# Altium integrated library Silicon Labs Clocks and Oscillators.IntLib: 678 symbols (part 35 of 45)
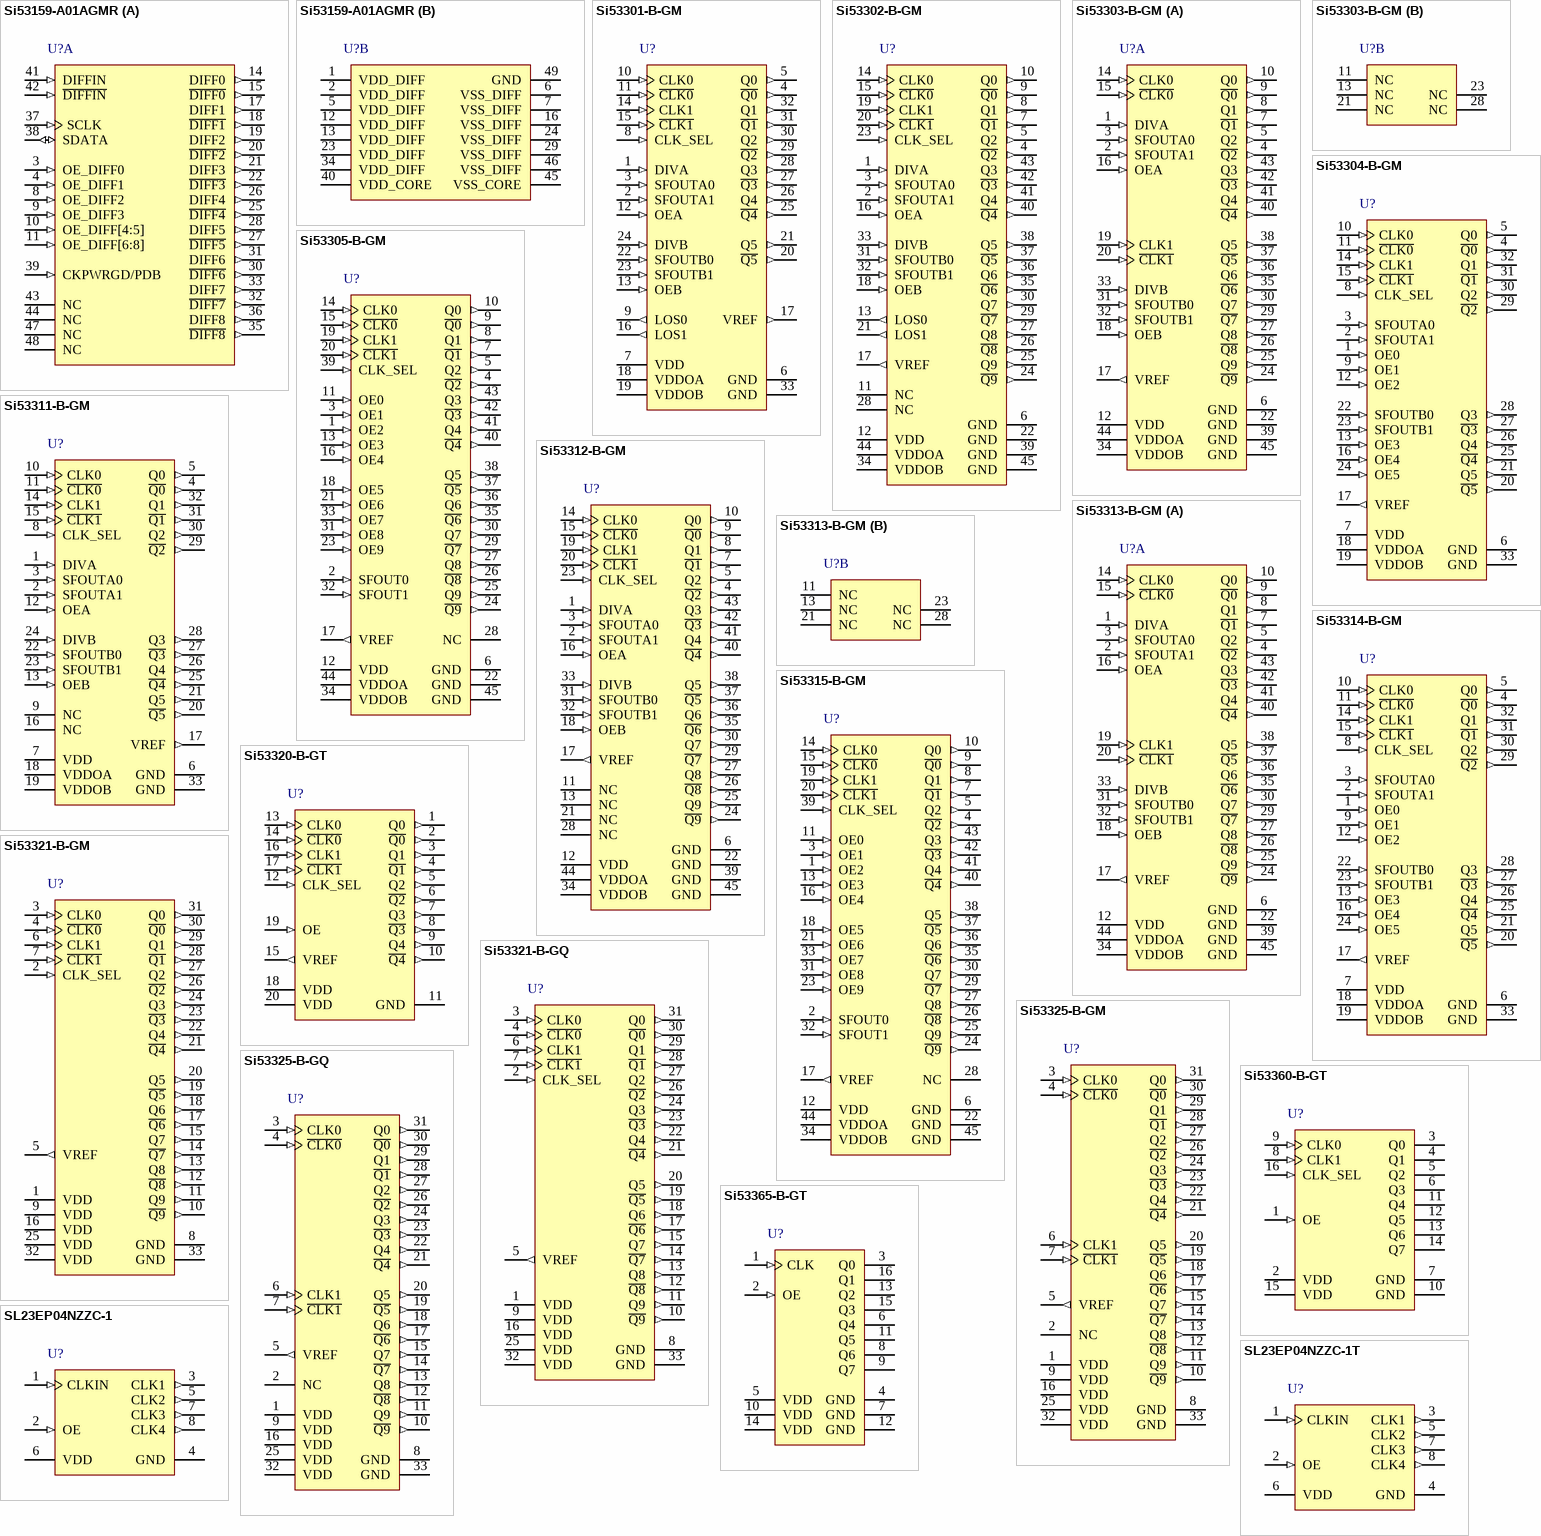
[diagram p78: symbols Si53159-A01AGMR to SL23EP04NZZC-1T]

## Si53321-B-GQ
designator U?
1:10 Low Jitter LVPECL Clock Buffer with 2:1 Input Mux, 1 to 1250 MHz, -40 to 85 degC, 32-pin QFP; Manufacturer: Silicon Labs; PartNumber: Si53321-B-GQ; Sub-Family: Clock Buffers; DatasheetVersion: Rev. 0.4; PackageReference: eLQFP-32; PackageDescription: 32-Pin eLQFP Package, Body 7 x 7 mm, Pitch 0.8 mm; Supplier 1: Digi-Key; Supplier Part Number 1: SI53321-B-GQ-ND; Supplier 2: Mouser; Supplier Part Number 2: 634-SI53321-B-GQ; Frequency (MHz): 1 to 1250; Output Format: LVPECL; Mounting Technology: Surface Mount; Code_JEDEC: MS-026; Code_IPC: J-STD-020; ComponentLink1Description: Manufacturer URL; ComponentLink1URL: http://www.silabs.com/; ComponentLink2Description: Datasheet; ComponentLink2URL: http://www.silabs.com/Support%20Documents/TechnicalDocs/Si53321.pdf; ComponentLink3Description: Package Specification; ComponentLink3URL: http://www.silabs.com/Support%20Documents/TechnicalDocs/Si53321.pdf
footprint SLAB-eLQFP-32_N (QFP, 32-Leads, Body 7x7mm, Pitch 0.8mm, Thermal Pad 1.97x1.97mm, IPC Medium Density)
footprint SLAB-eLQFP-32_L (QFP, 32-Leads, Body 7x7mm, Pitch 0.8mm, Thermal Pad 1.97x1.97mm, IPC High Density)
footprint SLAB-eLQFP-32_M (QFP, 32-Leads, Body 7x7mm, Pitch 0.8mm, Thermal Pad 1.97x1.97mm, IPC Low Density)
pins: 1 VDD (power) "Core voltage supply.Bypass with 1.0 uF capacitor and place as close to the VDD pin as possible.", 2 CLK_SEL (in) "Mux input select pin (LVCMOS) Clock inputs are switched without the introduction of glitches. When CLK_SEL is high, CLK1 is selected. When CLK_SEL is low, CLK0 is selected. CLK_SEL contains an internal pull-down resistor.", 3 CLK0 (in) "Input clock 0", 4 ~{CLK0} (in) "Input clock 0 (complement)", 5 VREF (out) "Input reference voltage.When driven by a LVCMOS clock input, connect the unused clock input to VREF and a 0.1 uF cap to ground. When driven by a differential clock, do not connect the VREF pin", 6 CLK1 (in) "Input clock 1", 7 ~{CLK1} (in) "Input clock 1 (complement)", 8 GND (power) "Ground.", 9 VDD (power) "Core voltage supply.Bypass with 1.0 uF capacitor and place as close to the VDD pin as possible.", 10 ~{Q9} (out) "Output clock 9 (complement).", 11 Q9 (out) "Output clock 9.", 12 ~{Q8} (out) "Output clock 8 (complement).", 13 Q8 (out) "Output clock 8.", 14 ~{Q7} (out) "Output clock 7 (complement).", 15 Q7 (out) "Output clock 7.", 16 VDD (power) "Core voltage supply.Bypass with 1.0 uF capacitor and place as close to the VDD pin as possible.", 17 ~{Q6} (out) "Output clock 6 (complement).", 18 Q6 (out) "Output clock 6.", 19 ~{Q5} (out) "Output clock 5 (complement).", 20 Q5 (out) "Output clock 5.", 21 ~{Q4} (out) "Output clock 4 (complement).", 22 Q4 (out) "Output clock 4.", 23 ~{Q3} (out) "Output clock 3 (complement).", 24 Q3 (out) "Output clock 3.", 25 VDD (power) "Core voltage supply.Bypass with 1.0 uF capacitor and place as close to the VDD pin as possible.", 26 ~{Q2} (out) "Output clock 2 (complement).", 27 Q2 (out) "Output clock 2.", 28 ~{Q1} (out) "Output clock 1 (complement).", 29 Q1 (out) "Output clock 1.", 30 ~{Q0} (out) "Output clock 0 (complement).", 31 Q0 (out) "Output clock 0.", 32 VDD (power) "Core voltage supply.Bypass with 1.0 uF capacitor and place as close to the VDD pin as possible.", 33 GND (power) "Ground Pad.The exposed ground pad is thermally connected to the die to improve the heat transfer out of the package. The ground pad must be connected to GND to ensure device specifications are met."

## Si53325-B-GM
designator U?
Dual 1:5 Low Jitter LVPECL Clock Buffer, 1 to 1250 MHz, -40 to 85 degC, 32-pin QFN; Manufacturer: Silicon Labs; PartNumber: Si53325-B-GM; Sub-Family: Clock Buffers; DatasheetVersion: Rev. 0.4; PackageReference: QFN-32; PackageDescription: 32-Pin Quad-Flat No-Leads Package, Body 5 x 5 mm, Pitch 0.5 mm; Supplier 1: Digi-Key; Supplier Part Number 1: SI53325-B-GM-ND; Supplier 2: Mouser; Supplier Part Number 2: 634-SI53325-B-GM; Frequency (MHz): 1 to 1250; Output Format: LVPECL; Mounting Technology: Surface Mount; Code_JEDEC: MO-220; Code_IPC: J-STD-020; ComponentLink1Description: Manufacturer URL; ComponentLink1URL: http://www.silabs.com/; ComponentLink2Description: Datasheet; ComponentLink2URL: http://www.silabs.com/Support%20Documents/TechnicalDocs/Si53325.pdf; ComponentLink3Description: Package Specification; ComponentLink3URL: http://www.silabs.com/Support%20Documents/TechnicalDocs/Si53321.pdf
footprint SLAB-QFN-32-2150x2150TP_A_N (QFN, 32-Leads, Body 5x5mm, Pitch 0.5mm, Thermal Pad 2.15x2.15mm, IPC Medium Density)
footprint SLAB-QFN-32-2150x2150TP_A_L (QFN, 32-Leads, Body 5x5mm, Pitch 0.5mm, Thermal Pad 2.15x2.15mm, IPC High Density)
footprint SLAB-QFN-32-2150x2150TP_A_M (QFN, 32-Leads, Body 5x5mm, Pitch 0.5mm, Thermal Pad 2.15x2.15mm, IPC Low Density)
pins: 1 VDD (power) "Core voltage supply. Bypass with 1.0 uF capacitor and place as close to the VDD pin as possible", 2 NC "No connect.", 3 CLK0 (in) "Input clock 0.", 4 ~{CLK0} (in) "Input clock 0 (complement).", 5 VREF (out) "Input reference voltage. When driven by a LVCMOS clock input, connect the unused clock input to VREF and a 0.1 uF cap to ground. When driven by a differential clock, do not connect the VREF pin.", 6 CLK1 (in) "Input clock 1.", 7 ~{CLK1} (in) "Input clock 1 (complement).", 8 GND (power) "Ground.", 9 VDD (power) "Core voltage supply. Bypass with 1.0 uF capacitor and place as close to the VDD pin as possible", 10 ~{Q9} (out) "Output clock 9 (complement).", 11 Q9 (out) "Output clock 9.", 12 ~{Q8} (out) "Output clock 8 (complement).", 13 Q8 (out) "Output clock 8.", 14 ~{Q7} (out) "Output clock 7 (complement).", 15 Q7 (out) "Output clock 7.", 16 VDD (power) "Core voltage supply. Bypass with 1.0 uF capacitor and place as close to the VDD pin as possible", 17 ~{Q6} (out) "Output clock 6 (complement).", 18 Q6 (out) "Output clock 6.", 19 ~{Q5} (out) "Output clock 5 (complement).", 20 Q5 (out) "Output clock 5.", 21 ~{Q4} (out) "Output clock 4 (complement).", 22 Q4 (out) "Output clock 4.", 23 ~{Q3} (out) "Output clock 3 (complement).", 24 Q3 (out) "Output clock 3.", 25 VDD (power) "Core voltage supply. Bypass with 1.0 uF capacitor and place as close to the VDD pin as possible", 26 ~{Q2} (out) "Output clock 2 (complement).", 27 Q2 (out) "Output clock 2.", 28 ~{Q1} (out) "Output clock 1 (complement).", 29 Q1 (out) "Output clock 1.", 30 ~{Q0} (out) "Output clock 0 (complement).", 31 Q0 (out) "Output clock 0.", 32 VDD (power) "Core voltage supply. Bypass with 1.0 uF capacitor and place as close to the VDD pin as possible", 33 GND (power) "Ground Pad. The exposed ground pad is thermally connected to the die to improve the heat transfer out of the package. The ground pad must be connected to GND to ensure device specifications are met."

## Si53325-B-GQ
designator U?
Dual 1:5 Low Jitter LVPECL Clock Buffer, 1 to 1250 MHz, -40 to 85 degC, 32-pin QFP; Manufacturer: Silicon Labs; PartNumber: Si53325-B-GQ; Sub-Family: Clock Buffers; DatasheetVersion: Rev. 0.4; PackageReference: eLQFP-32; PackageDescription: 32-Pin eLQFP Package, Body 7 x 7 mm, Pitch 0.8 mm; Supplier 1: Digi-Key; Supplier Part Number 1: SI53325-B-GQ-ND; Supplier 2: Mouser; Supplier Part Number 2: 634-SI53325-B-GQ; Frequency (MHz): 1 to 1250; Output Format: LVPECL; Mounting Technology: Surface Mount; Code_JEDEC: MS-026; Code_IPC: J-STD-020; ComponentLink1Description: Manufacturer URL; ComponentLink1URL: http://www.silabs.com/; ComponentLink2Description: Datasheet; ComponentLink2URL: http://www.silabs.com/Support%20Documents/TechnicalDocs/Si53325.pdf; ComponentLink3Description: Package Specification; ComponentLink3URL: http://www.silabs.com/Support%20Documents/TechnicalDocs/Si53321.pdf
footprint SLAB-eLQFP-32_N (QFP, 32-Leads, Body 7x7mm, Pitch 0.8mm, Thermal Pad 1.97x1.97mm, IPC Medium Density)
footprint SLAB-eLQFP-32_L (QFP, 32-Leads, Body 7x7mm, Pitch 0.8mm, Thermal Pad 1.97x1.97mm, IPC High Density)
footprint SLAB-eLQFP-32_M (QFP, 32-Leads, Body 7x7mm, Pitch 0.8mm, Thermal Pad 1.97x1.97mm, IPC Low Density)
pins: 1 VDD (power) "Core voltage supply. Bypass with 1.0 uF capacitor and place as close to the VDD pin as possible", 2 NC "No connect.", 3 CLK0 (in) "Input clock 0.", 4 ~{CLK0} (in) "Input clock 0 (complement).", 5 VREF (out) "Input reference voltage. When driven by a LVCMOS clock input, connect the unused clock input to VREF and a 0.1 uF cap to ground. When driven by a differential clock, do not connect the VREF pin.", 6 CLK1 (in) "Input clock 1.", 7 ~{CLK1} (in) "Input clock 1 (complement).", 8 GND (power) "Ground.", 9 VDD (power) "Core voltage supply. Bypass with 1.0 uF capacitor and place as close to the VDD pin as possible", 10 ~{Q9} (out) "Output clock 9 (complement).", 11 Q9 (out) "Output clock 9.", 12 ~{Q8} (out) "Output clock 8 (complement).", 13 Q8 (out) "Output clock 8.", 14 ~{Q7} (out) "Output clock 7 (complement).", 15 Q7 (out) "Output clock 7.", 16 VDD (power) "Core voltage supply. Bypass with 1.0 uF capacitor and place as close to the VDD pin as possible", 17 ~{Q6} (out) "Output clock 6 (complement).", 18 Q6 (out) "Output clock 6.", 19 ~{Q5} (out) "Output clock 5 (complement).", 20 Q5 (out) "Output clock 5.", 21 ~{Q4} (out) "Output clock 4 (complement).", 22 Q4 (out) "Output clock 4.", 23 ~{Q3} (out) "Output clock 3 (complement).", 24 Q3 (out) "Output clock 3.", 25 VDD (power) "Core voltage supply. Bypass with 1.0 uF capacitor and place as close to the VDD pin as possible", 26 ~{Q2} (out) "Output clock 2 (complement).", 27 Q2 (out) "Output clock 2.", 28 ~{Q1} (out) "Output clock 1 (complement).", 29 Q1 (out) "Output clock 1.", 30 ~{Q0} (out) "Output clock 0 (complement).", 31 Q0 (out) "Output clock 0.", 32 VDD (power) "Core voltage supply. Bypass with 1.0 uF capacitor and place as close to the VDD pin as possible", 33 GND (power) "Ground Pad. The exposed ground pad is thermally connected to the die to improve the heat transfer out of the package. The ground pad must be connected to GND to ensure device specifications are met."

## Si53360-B-GT
designator U?
1:8 Low Jitter CMOS Clock Buffer with 2:1 Input Mux, 1 to 200 MHz, -40 to 85 degC, 16-pin SOP; Manufacturer: Silicon Labs; PartNumber: Si53360-B-GT; Frequency (MHz): 1 to 200; Output Format: LVCMOS; Sub-Family: Clock Buffers; DatasheetVersion: Rev. 0.4; PackageReference: TSSOP-16; PackageDescription: 16-Pin Thin Shrink Small-Outline Package, Body 5 x 4.4 mm, Pitch 0.65 mm; Supplier 1: Digi-Key; Supplier Part Number 1: SI53360-B-GT-ND; Supplier 2: Mouser; Supplier Part Number 2: 634-SI53360-B-GT; Mounting Technology: Surface Mount; Code_JEDEC: MO-153; Code_IPC: J-STD-020C; ComponentLink1Description: Manufacturer URL; ComponentLink1URL: http://www.silabs.com/; ComponentLink2Description: Datasheet; ComponentLink2URL: http://www.silabs.com/Support%20Documents/TechnicalDocs/Si53360.pdf; ComponentLink3Description: Package Specification; ComponentLink3URL: http://www.silabs.com/Support%20Documents/TechnicalDocs/Si53360.pdf
footprint SLAB-TSSOP-16_N (SOP, 16-Leads, Body 5.1x4.5mm, Pitch 0.65mm, IPC Medium Density)
footprint SLAB-TSSOP-16_L (SOP, 16-Leads, Body 5.1x4.5mm, Pitch 0.65mm, IPC High Density)
footprint SLAB-TSSOP-16_M (SOP, 16-Leads, Body 5.1x4.5mm, Pitch 0.65mm, IPC Low Density)
pins: 1 OE (in) "Output enable.When OE=high, the clock outputs are enabled.When OE=low, the clock outputs are tri-stated.OE contains an internal pull-up resistor.", 2 VDD (power) "Core voltage supply.Bypass with 1.0 uF capacitor and place as close to the VDD pin as possible.", 3 Q0 (hiz) "Output clock 0.", 4 Q1 (hiz) "Output clock 1.", 5 Q2 (hiz) "Output clock 2.", 6 Q3 (hiz) "Output clock 3.", 7 GND (power) "Ground.", 8 CLK1 (in) "Input clock 1.", 9 CLK0 (in) "Input clock 0.", 10 GND (power) "Ground.", 11 Q4 (hiz) "Output clock 4.", 12 Q5 (hiz) "Output clock 5.", 13 Q6 (hiz) "Output clock 6.", 14 Q7 (hiz) "Output clock 7.", 15 VDD (power) "Core voltage supply.Bypass with 1.0 uF capacitor and place as close to the VDD pin as possible.", 16 CLK_SEL (in) "Mux input select pin (LVCMOS).When CLK_SEL is high, CLK1 is selected.When CLK_SEL is low, CLK0 is selected.CLK_SEL contains an internal pull-up resistor."

## Si53365-B-GT
designator U?
1:8 Low Jitter CMOS Clock Buffer, 1 to 200 MHz, -40 to 85 degC, 16-pin SOP; Manufacturer: Silicon Labs; PartNumber: Si53365-B-GT; Frequency (MHz): 1 to 200; Output Format: LVCMOS; Sub-Family: Clock Buffers; DatasheetVersion: Rev. 0.4; PackageReference: TSSOP-16; PackageDescription: 16-Pin Thin Shrink Small-Outline Package, Body 5 x 4.4 mm, Pitch 0.65 mm; Supplier 1: Digi-Key; Supplier Part Number 1: SI53365-B-GT-ND; Supplier 2: Mouser; Supplier Part Number 2: 634-SI53365-B-GT; Mounting Technology: Surface Mount; Code_JEDEC: MO-153; Code_IPC: J-STD-020C; ComponentLink1Description: Manufacturer URL; ComponentLink1URL: http://www.silabs.com/; ComponentLink2Description: Datasheet; ComponentLink2URL: http://www.silabs.com/Support%20Documents/TechnicalDocs/Si53365.pdf; ComponentLink3Description: Package Specification; ComponentLink3URL: http://www.silabs.com/Support%20Documents/TechnicalDocs/Si53360.pdf
footprint SLAB-TSSOP-16_N (SOP, 16-Leads, Body 5.1x4.5mm, Pitch 0.65mm, IPC Medium Density)
footprint SLAB-TSSOP-16_L (SOP, 16-Leads, Body 5.1x4.5mm, Pitch 0.65mm, IPC High Density)
footprint SLAB-TSSOP-16_M (SOP, 16-Leads, Body 5.1x4.5mm, Pitch 0.65mm, IPC Low Density)
pins: 1 CLK (in) "Input clock.", 2 OE (in) "Output enable.When OE=high, the clock outputs are enabled.When OE=low, the clock outputs are tri-stated.OE contains an internal pull-up resistor.", 3 Q0 (hiz) "Output clock 0.", 4 GND (power) "Ground.", 5 VDD (power) "Core voltage supply.Bypass with 1.0 uF capacitor and place as close to the VDD pin as possible.", 6 Q4 (hiz) "Output clock 4.", 7 GND (power) "Ground.", 8 Q6 (hiz) "Output clock 6.", 9 Q7 (hiz) "Output clock 7.", 10 VDD (power) "Core voltage supply.Bypass with 1.0 uF capacitor and place as close to the VDD pin as possible.", 11 Q5 (hiz) "Output clock 5.", 12 GND (power) "Ground.", 13 Q2 (hiz) "Output clock 2.", 14 VDD (power) "Core voltage supply.Bypass with 1.0 uF capacitor and place as close to the VDD pin as possible.", 15 Q3 (hiz) "Output clock 3.", 16 Q1 (hiz) "Output clock 1."

## SL23EP04NZZC-1
designator U?
Low Jitter and Skew Clock Buffer, DC to 220 MHz, 0 to 70 degC, 8-pin SOP, Tube; Manufacturer: Silicon Labs; PartNumber: SL23EP04NZZC-1; Output Format: LVCMOS; Sub-Family: Clock Buffers; DatasheetVersion: Rev. 2.1; PackageReference: TSSOP-8; PackageDescription: 8-Pin Thin Shrink Small-Outline Package, Body 4.4 x 3 mm, Pitch 0.65 mm; Supplier 1: Digi-Key; Supplier Part Number 1: SL23EP04NZZC-1-ND; Supplier 2: Mouser; Supplier Part Number 2: 634-SL23EP04NZZC-1; Frequency (MHz): DC to 220; Packing: Tube; Mounting Technology: Surface Mount; ComponentLink1Description: Manufacturer URL; ComponentLink1URL: http://www.silabs.com/; ComponentLink2Description: Datasheet; ComponentLink2URL: http://www.silabs.com/Support%20Documents/TechnicalDocs/SL23EP04NZ.pdf; ComponentLink3Description: Package Specification; ComponentLink3URL: http://www.silabs.com/Support%20Documents/TechnicalDocs/SL2304NZ.pdf
footprint SLAB-TSSOP-8_N (SOP, 8-Leads, Body 4.5x3.1mm, Pitch 0.65mm, IPC Medium Density)
footprint SLAB-TSSOP-8_L (SOP, 8-Leads, Body 4.5x3.1mm, Pitch 0.65mm, IPC High Density)
footprint SLAB-TSSOP-8_M (SOP, 8-Leads, Body 4.5x3.1mm, Pitch 0.65mm, IPC Low Density)
pins: 1 CLKIN (in) "Reference Clock Input", 2 OE (in) "Output Enable. Refer to the Table. 1 for Logic Table", 3 CLK1 (out) "Buffered Clock Output 1", 4 GND (power) "Power Ground.", 5 CLK2 (out) "Buffered Clock Output 2", 6 VDD (power), 7 CLK3 (out) "Buffered Clock Output 3", 8 CLK4 (out) "Buffered Clock Output 4"

## SL23EP04NZZC-1T
designator U?
Low Jitter and Skew Clock Buffer, DC to 220 MHz, 0 to 70 degC, 8-pin SOP, Tape and Reel; Manufacturer: Silicon Labs; PartNumber: SL23EP04NZZC-1T; Output Format: LVCMOS; Sub-Family: Clock Buffers; DatasheetVersion: Rev. 2.1; PackageReference: TSSOP-8; PackageDescription: 8-Pin Thin Shrink Small-Outline Package, Body 4.4 x 3 mm, Pitch 0.65 mm; Supplier 1: Digi-Key; Supplier Part Number 1: SL23EP04NZZC-1T-ND; Supplier 2: Mouser; Supplier Part Number 2: 634-SL23EP04NZZC-1T; Frequency (MHz): DC to 220; Packing: Tape and Reel; Mounting Technology: Surface Mount; ComponentLink1Description: Manufacturer URL; ComponentLink1URL: http://www.silabs.com/; ComponentLink2Description: Datasheet; ComponentLink2URL: http://www.silabs.com/Support%20Documents/TechnicalDocs/SL23EP04NZ.pdf; ComponentLink3Description: Package Specification; ComponentLink3URL: http://www.silabs.com/Support%20Documents/TechnicalDocs/SL2304NZ.pdf
footprint SLAB-TSSOP-8_N (SOP, 8-Leads, Body 4.5x3.1mm, Pitch 0.65mm, IPC Medium Density)
footprint SLAB-TSSOP-8_L (SOP, 8-Leads, Body 4.5x3.1mm, Pitch 0.65mm, IPC High Density)
footprint SLAB-TSSOP-8_M (SOP, 8-Leads, Body 4.5x3.1mm, Pitch 0.65mm, IPC Low Density)
pins: 1 CLKIN (in) "Reference Clock Input", 2 OE (in) "Output Enable. Refer to the Table. 1 for Logic Table", 3 CLK1 (out) "Buffered Clock Output 1", 4 GND (power) "Power Ground.", 5 CLK2 (out) "Buffered Clock Output 2", 6 VDD (power), 7 CLK3 (out) "Buffered Clock Output 3", 8 CLK4 (out) "Buffered Clock Output 4"

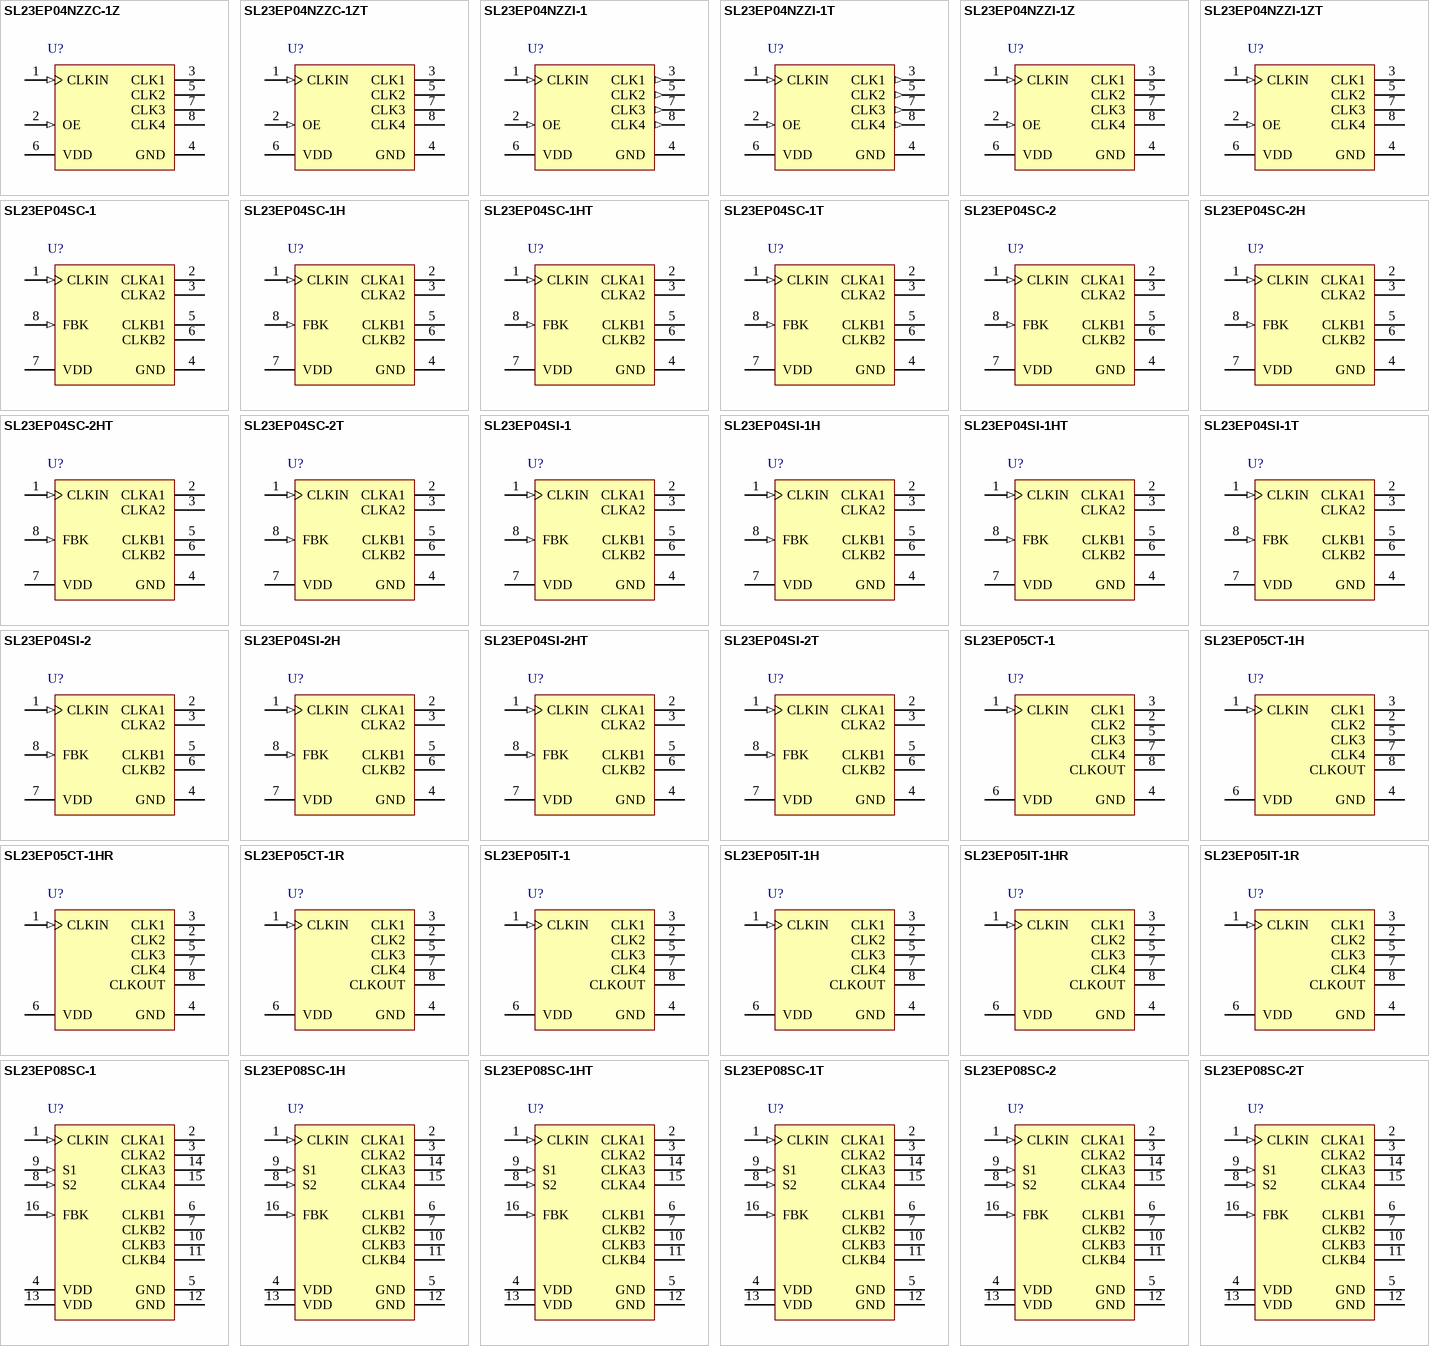
[diagram p34: symbols SL23EP04NZZC-1Z to SL23EP08SC-2T]

## SL23EP04NZZC-1Z
designator U?
Low Jitter and Skew Clock Buffer, DC to 220 MHz, 0 to 70 degC, 8-pin SOP, Tube; Manufacturer: Silicon Labs; PartNumber: SL23EP04NZZC-1Z; Output Format: LVCMOS; Sub-Family: Clock Buffers; DatasheetVersion: Rev. 2.1; PackageReference: TSSOP-8; PackageDescription: 8-Pin Thin Shrink Small-Outline Package, Body 4.4 x 3 mm, Pitch 0.65 mm; Frequency (MHz): DC to 220; Packing: Tube; Mounting Technology: Surface Mount; ComponentLink1Description: Manufacturer URL; ComponentLink1URL: http://www.silabs.com/; ComponentLink2Description: Datasheet; ComponentLink2URL: http://www.silabs.com/Support%20Documents/TechnicalDocs/SL23EP04NZ.pdf; ComponentLink3Description: Package Specification; ComponentLink3URL: http://www.silabs.com/Support%20Documents/TechnicalDocs/SL2304NZ.pdf
footprint SLAB-TSSOP-8_N (SOP, 8-Leads, Body 4.5x3.1mm, Pitch 0.65mm, IPC Medium Density)
footprint SLAB-TSSOP-8_L (SOP, 8-Leads, Body 4.5x3.1mm, Pitch 0.65mm, IPC High Density)
footprint SLAB-TSSOP-8_M (SOP, 8-Leads, Body 4.5x3.1mm, Pitch 0.65mm, IPC Low Density)
pins: 1 CLKIN (in) "Reference Clock Input", 2 OE (in) "Output Enable. Refer to the Table. 1 for Logic Table", 3 CLK1 (hiz) "Buffered Clock Output 1", 4 GND (power) "Power Ground.", 5 CLK2 (hiz) "Buffered Clock Output 2", 6 VDD (power), 7 CLK3 (hiz) "Buffered Clock Output 3", 8 CLK4 (hiz) "Buffered Clock Output 4"

## SL23EP04NZZC-1ZT
designator U?
Low Jitter and Skew Clock Buffer, DC to 220 MHz, 0 to 70 degC, 8-pin SOP, Tape and Reel; Manufacturer: Silicon Labs; PartNumber: SL23EP04NZZC-1ZT; Output Format: LVCMOS; Sub-Family: Clock Buffers; DatasheetVersion: Rev. 2.1; PackageReference: TSSOP-8; PackageDescription: 8-Pin Thin Shrink Small-Outline Package, Body 4.4 x 3 mm, Pitch 0.65 mm; Frequency (MHz): DC to 220; Packing: Tape and Reel; Mounting Technology: Surface Mount; ComponentLink1Description: Manufacturer URL; ComponentLink1URL: http://www.silabs.com/; ComponentLink2Description: Datasheet; ComponentLink2URL: http://www.silabs.com/Support%20Documents/TechnicalDocs/SL23EP04NZ.pdf; ComponentLink3Description: Package Specification; ComponentLink3URL: http://www.silabs.com/Support%20Documents/TechnicalDocs/SL2304NZ.pdf
footprint SLAB-TSSOP-8_N (SOP, 8-Leads, Body 4.5x3.1mm, Pitch 0.65mm, IPC Medium Density)
footprint SLAB-TSSOP-8_L (SOP, 8-Leads, Body 4.5x3.1mm, Pitch 0.65mm, IPC High Density)
footprint SLAB-TSSOP-8_M (SOP, 8-Leads, Body 4.5x3.1mm, Pitch 0.65mm, IPC Low Density)
pins: 1 CLKIN (in) "Reference Clock Input", 2 OE (in) "Output Enable. Refer to the Table. 1 for Logic Table", 3 CLK1 (hiz) "Buffered Clock Output 1", 4 GND (power) "Power Ground.", 5 CLK2 (hiz) "Buffered Clock Output 2", 6 VDD (power), 7 CLK3 (hiz) "Buffered Clock Output 3", 8 CLK4 (hiz) "Buffered Clock Output 4"

## SL23EP04NZZI-1
designator U?
Low Jitter and Skew Clock Buffer, DC to 220 MHz, -40 to 85 degC, 8-pin SOP, Tube; Manufacturer: Silicon Labs; PartNumber: SL23EP04NZZI-1; Output Format: LVCMOS; Sub-Family: Clock Buffers; DatasheetVersion: Rev. 2.1; PackageReference: TSSOP-8; PackageDescription: 8-Pin Thin Shrink Small-Outline Package, Body 4.4 x 3 mm, Pitch 0.65 mm; Supplier 1: Digi-Key; Supplier Part Number 1: SL23EP04NZZI-1-ND; Supplier 2: Mouser; Supplier Part Number 2: 634-SL23EP04NZZI-1; Frequency (MHz): DC to 220; Packing: Tube; Mounting Technology: Surface Mount; ComponentLink1Description: Manufacturer URL; ComponentLink1URL: http://www.silabs.com/; ComponentLink2Description: Datasheet; ComponentLink2URL: http://www.silabs.com/Support%20Documents/TechnicalDocs/SL23EP04NZ.pdf; ComponentLink3Description: Package Specification; ComponentLink3URL: http://www.silabs.com/Support%20Documents/TechnicalDocs/SL2304NZ.pdf
footprint SLAB-TSSOP-8_N (SOP, 8-Leads, Body 4.5x3.1mm, Pitch 0.65mm, IPC Medium Density)
footprint SLAB-TSSOP-8_L (SOP, 8-Leads, Body 4.5x3.1mm, Pitch 0.65mm, IPC High Density)
footprint SLAB-TSSOP-8_M (SOP, 8-Leads, Body 4.5x3.1mm, Pitch 0.65mm, IPC Low Density)
pins: 1 CLKIN (in) "Reference Clock Input", 2 OE (in) "Output Enable. Refer to the Table. 1 for Logic Table", 3 CLK1 (out) "Buffered Clock Output 1", 4 GND (power) "Power Ground.", 5 CLK2 (out) "Buffered Clock Output 2", 6 VDD (power), 7 CLK3 (out) "Buffered Clock Output 3", 8 CLK4 (out) "Buffered Clock Output 4"

## SL23EP04NZZI-1T
designator U?
Low Jitter and Skew Clock Buffer, DC to 220 MHz, -40 to 85 degC, 8-pin SOP, Tape and Reel; Manufacturer: Silicon Labs; PartNumber: SL23EP04NZZI-1T; Output Format: LVCMOS; Sub-Family: Clock Buffers; DatasheetVersion: Rev. 2.1; PackageReference: TSSOP-8; PackageDescription: 8-Pin Thin Shrink Small-Outline Package, Body 4.4 x 3 mm, Pitch 0.65 mm; Supplier 1: Digi-Key; Supplier Part Number 1: SL23EP04NZZI-1T-ND; Supplier 2: Mouser; Supplier Part Number 2: 634-SL23EP04NZZI-1T; Frequency (MHz): DC to 220; Packing: Tape and Reel; Mounting Technology: Surface Mount; ComponentLink1Description: Manufacturer URL; ComponentLink1URL: http://www.silabs.com/; ComponentLink2Description: Datasheet; ComponentLink2URL: http://www.silabs.com/Support%20Documents/TechnicalDocs/SL23EP04NZ.pdf; ComponentLink3Description: Package Specification; ComponentLink3URL: http://www.silabs.com/Support%20Documents/TechnicalDocs/SL2304NZ.pdf
footprint SLAB-TSSOP-8_N (SOP, 8-Leads, Body 4.5x3.1mm, Pitch 0.65mm, IPC Medium Density)
footprint SLAB-TSSOP-8_L (SOP, 8-Leads, Body 4.5x3.1mm, Pitch 0.65mm, IPC High Density)
footprint SLAB-TSSOP-8_M (SOP, 8-Leads, Body 4.5x3.1mm, Pitch 0.65mm, IPC Low Density)
pins: 1 CLKIN (in) "Reference Clock Input", 2 OE (in) "Output Enable. Refer to the Table. 1 for Logic Table", 3 CLK1 (out) "Buffered Clock Output 1", 4 GND (power) "Power Ground.", 5 CLK2 (out) "Buffered Clock Output 2", 6 VDD (power), 7 CLK3 (out) "Buffered Clock Output 3", 8 CLK4 (out) "Buffered Clock Output 4"

## SL23EP04NZZI-1Z
designator U?
Low Jitter and Skew Clock Buffer, DC to 220 MHz, -40 to 85 degC, 8-pin SOP, Tube; Manufacturer: Silicon Labs; PartNumber: SL23EP04NZZI-1Z; Output Format: LVCMOS; Sub-Family: Clock Buffers; DatasheetVersion: Rev. 2.1; PackageReference: TSSOP-8; PackageDescription: 8-Pin Thin Shrink Small-Outline Package, Body 4.4 x 3 mm, Pitch 0.65 mm; Frequency (MHz): DC to 220; Packing: Tube; Mounting Technology: Surface Mount; ComponentLink1Description: Manufacturer URL; ComponentLink1URL: http://www.silabs.com/; ComponentLink2Description: Datasheet; ComponentLink2URL: http://www.silabs.com/Support%20Documents/TechnicalDocs/SL23EP04NZ.pdf; ComponentLink3Description: Package Specification; ComponentLink3URL: http://www.silabs.com/Support%20Documents/TechnicalDocs/SL2304NZ.pdf
footprint SLAB-TSSOP-8_N (SOP, 8-Leads, Body 4.5x3.1mm, Pitch 0.65mm, IPC Medium Density)
footprint SLAB-TSSOP-8_L (SOP, 8-Leads, Body 4.5x3.1mm, Pitch 0.65mm, IPC High Density)
footprint SLAB-TSSOP-8_M (SOP, 8-Leads, Body 4.5x3.1mm, Pitch 0.65mm, IPC Low Density)
pins: 1 CLKIN (in) "Reference Clock Input", 2 OE (in) "Output Enable. Refer to the Table. 1 for Logic Table", 3 CLK1 (hiz) "Buffered Clock Output 1", 4 GND (power) "Power Ground.", 5 CLK2 (hiz) "Buffered Clock Output 2", 6 VDD (power), 7 CLK3 (hiz) "Buffered Clock Output 3", 8 CLK4 (hiz) "Buffered Clock Output 4"

## SL23EP04NZZI-1ZT
designator U?
Low Jitter and Skew Clock Buffer, DC to 220 MHz, -40 to 85 degC, 8-pin SOP, Tape and Reel; Manufacturer: Silicon Labs; PartNumber: SL23EP04NZZI-1ZT; Output Format: LVCMOS; Sub-Family: Clock Buffers; DatasheetVersion: Rev. 2.1; PackageReference: TSSOP-8; PackageDescription: 8-Pin Thin Shrink Small-Outline Package, Body 4.4 x 3 mm, Pitch 0.65 mm; Frequency (MHz): DC to 220; Packing: Tape and Reel; Mounting Technology: Surface Mount; ComponentLink1Description: Manufacturer URL; ComponentLink1URL: http://www.silabs.com/; ComponentLink2Description: Datasheet; ComponentLink2URL: http://www.silabs.com/Support%20Documents/TechnicalDocs/SL23EP04NZ.pdf; ComponentLink3Description: Package Specification; ComponentLink3URL: http://www.silabs.com/Support%20Documents/TechnicalDocs/SL2304NZ.pdf
footprint SLAB-TSSOP-8_N (SOP, 8-Leads, Body 4.5x3.1mm, Pitch 0.65mm, IPC Medium Density)
footprint SLAB-TSSOP-8_L (SOP, 8-Leads, Body 4.5x3.1mm, Pitch 0.65mm, IPC High Density)
footprint SLAB-TSSOP-8_M (SOP, 8-Leads, Body 4.5x3.1mm, Pitch 0.65mm, IPC Low Density)
pins: 1 CLKIN (in) "Reference Clock Input", 2 OE (in) "Output Enable. Refer to the Table. 1 for Logic Table", 3 CLK1 (hiz) "Buffered Clock Output 1", 4 GND (power) "Power Ground.", 5 CLK2 (hiz) "Buffered Clock Output 2", 6 VDD (power), 7 CLK3 (hiz) "Buffered Clock Output 3", 8 CLK4 (hiz) "Buffered Clock Output 4"

## SL23EP04SC-1
designator U?
Low Jitter and Skew Zero Delay Buffer (ZDB), 10 to 220 MHz, 0 to 70 degC, 8-pin SOIC, Tube; Manufacturer: Silicon Labs; PartNumber: SL23EP04SC-1; Output Format: LVCMOS; Sub-Family: Clock Buffers; DatasheetVersion: Rev. 2.1; PackageReference: SOIC-8; PackageDescription: 8-Pin Small-Outline Integrated Circuit, Body 4.9 x 3.9 mm, Pitch 1.27 mm; Supplier 1: Digi-Key; Supplier Part Number 1: SL23EP04SC-1-ND; Supplier 2: Mouser; Supplier Part Number 2: 634-SL23EP04SC-1; Frequency (MHz): 10 to 220; Packing: Tube; Mounting Technology: Surface Mount; ComponentLink1Description: Manufacturer URL; ComponentLink1URL: http://www.silabs.com/; ComponentLink2Description: Datasheet; ComponentLink2URL: http://www.silabs.com/Support%20Documents/TechnicalDocs/SL23EP04.pdf; ComponentLink3Description: Package Specification; ComponentLink3URL: http://www.silabs.com/Support%20Documents/TechnicalDocs/SL23EP04.pdf
footprint SLAB-SOIC-8_N (SOIC, 8-Leads, Body 5x4mm, Pitch 1.27mm, IPC Medium Density)
footprint SLAB-SOIC-8_L (SOIC, 8-Leads, Body 5x4mm, Pitch 1.27mm, IPC High Density)
footprint SLAB-SOIC-8_M (SOIC, 8-Leads, Body 5x4mm, Pitch 1.27mm, IPC Low Density)
pins: 1 CLKIN (in) "Reference Frequency Clock Input. Weak pull-down (250kohm).", 2 CLKA1 (hiz) "Buffered Clock Output Weak pull-down (250kohm).", 3 CLKA2 (hiz) "Buffered Clock Output. Weak pull-down (250kohm).", 4 GND (power) "Power Ground.", 5 CLKB1 (hiz) "Buffered Clock Output. Weak pull-down (250kohm).", 6 CLKB2 (hiz) "Buffered Clock Output. Weak pull-down (250kohm).", 7 VDD (power) "2.5V to 3.3V Power Supply.", 8 FBK (in) "PLL Feedback Input. This pin must be connected to one of the clock outputs."

## SL23EP04SC-1H
designator U?
Low Jitter and Skew Zero Delay Buffer (ZDB), 10 to 220 MHz, 0 to 70 degC, 8-pin SOIC, Tube; Manufacturer: Silicon Labs; PartNumber: SL23EP04SC-1H; Output Format: LVCMOS; Sub-Family: Clock Buffers; DatasheetVersion: Rev. 2.1; PackageReference: SOIC-8; PackageDescription: 8-Pin Small-Outline Integrated Circuit, Body 4.9 x 3.9 mm, Pitch 1.27 mm; Supplier 1: Digi-Key; Supplier Part Number 1: SL23EP04SC-1H-ND; Supplier 2: Mouser; Supplier Part Number 2: 634-SL23EP04SC-1H; Frequency (MHz): 10 to 220; Packing: Tube; Mounting Technology: Surface Mount; ComponentLink1Description: Manufacturer URL; ComponentLink1URL: http://www.silabs.com/; ComponentLink2Description: Datasheet; ComponentLink2URL: http://www.silabs.com/Support%20Documents/TechnicalDocs/SL23EP04.pdf; ComponentLink3Description: Package Specification; ComponentLink3URL: http://www.silabs.com/Support%20Documents/TechnicalDocs/SL23EP04.pdf
footprint SLAB-SOIC-8_N (SOIC, 8-Leads, Body 5x4mm, Pitch 1.27mm, IPC Medium Density)
footprint SLAB-SOIC-8_L (SOIC, 8-Leads, Body 5x4mm, Pitch 1.27mm, IPC High Density)
footprint SLAB-SOIC-8_M (SOIC, 8-Leads, Body 5x4mm, Pitch 1.27mm, IPC Low Density)
pins: 1 CLKIN (in) "Reference Frequency Clock Input. Weak pull-down (250kohm).", 2 CLKA1 (hiz) "Buffered Clock Output Weak pull-down (250kohm).", 3 CLKA2 (hiz) "Buffered Clock Output. Weak pull-down (250kohm).", 4 GND (power) "Power Ground.", 5 CLKB1 (hiz) "Buffered Clock Output. Weak pull-down (250kohm).", 6 CLKB2 (hiz) "Buffered Clock Output. Weak pull-down (250kohm).", 7 VDD (power) "2.5V to 3.3V Power Supply.", 8 FBK (in) "PLL Feedback Input. This pin must be connected to one of the clock outputs."

## SL23EP04SC-1HT
designator U?
Low Jitter and Skew Zero Delay Buffer (ZDB), 10 to 220 MHz, 0 to 70 degC, 8-pin SOIC, Tape and Reel; Manufacturer: Silicon Labs; PartNumber: SL23EP04SC-1HT; Output Format: LVCMOS; Sub-Family: Clock Buffers; DatasheetVersion: Rev. 2.1; PackageReference: SOIC-8; PackageDescription: 8-Pin Small-Outline Integrated Circuit, Body 4.9 x 3.9 mm, Pitch 1.27 mm; Supplier 1: Digi-Key; Supplier Part Number 1: SL23EP04SC-1HT-ND; Supplier 2: Mouser; Supplier Part Number 2: 634-SL23EP04SC-1HT; Frequency (MHz): 10 to 220; Packing: Tape and Reel; Mounting Technology: Surface Mount; ComponentLink1Description: Manufacturer URL; ComponentLink1URL: http://www.silabs.com/; ComponentLink2Description: Datasheet; ComponentLink2URL: http://www.silabs.com/Support%20Documents/TechnicalDocs/SL23EP04.pdf; ComponentLink3Description: Package Specification; ComponentLink3URL: http://www.silabs.com/Support%20Documents/TechnicalDocs/SL23EP04.pdf
footprint SLAB-SOIC-8_N (SOIC, 8-Leads, Body 5x4mm, Pitch 1.27mm, IPC Medium Density)
footprint SLAB-SOIC-8_L (SOIC, 8-Leads, Body 5x4mm, Pitch 1.27mm, IPC High Density)
footprint SLAB-SOIC-8_M (SOIC, 8-Leads, Body 5x4mm, Pitch 1.27mm, IPC Low Density)
pins: 1 CLKIN (in) "Reference Frequency Clock Input. Weak pull-down (250kohm).", 2 CLKA1 (hiz) "Buffered Clock Output Weak pull-down (250kohm).", 3 CLKA2 (hiz) "Buffered Clock Output. Weak pull-down (250kohm).", 4 GND (power) "Power Ground.", 5 CLKB1 (hiz) "Buffered Clock Output. Weak pull-down (250kohm).", 6 CLKB2 (hiz) "Buffered Clock Output. Weak pull-down (250kohm).", 7 VDD (power) "2.5V to 3.3V Power Supply.", 8 FBK (in) "PLL Feedback Input. This pin must be connected to one of the clock outputs."

## SL23EP04SC-1T
designator U?
Low Jitter and Skew Zero Delay Buffer (ZDB), 10 to 220 MHz, 0 to 70 degC, 8-pin SOIC, Tape and Reel; Manufacturer: Silicon Labs; PartNumber: SL23EP04SC-1T; Output Format: LVCMOS; Sub-Family: Clock Buffers; DatasheetVersion: Rev. 2.1; PackageReference: SOIC-8; PackageDescription: 8-Pin Small-Outline Integrated Circuit, Body 4.9 x 3.9 mm, Pitch 1.27 mm; Supplier 1: Digi-Key; Supplier Part Number 1: SL23EP04SC-1T-ND; Supplier 2: Mouser; Supplier Part Number 2: 634-SL23EP04SC-1T; Frequency (MHz): 10 to 220; Packing: Tape and Reel; Mounting Technology: Surface Mount; ComponentLink1Description: Manufacturer URL; ComponentLink1URL: http://www.silabs.com/; ComponentLink2Description: Datasheet; ComponentLink2URL: http://www.silabs.com/Support%20Documents/TechnicalDocs/SL23EP04.pdf; ComponentLink3Description: Package Specification; ComponentLink3URL: http://www.silabs.com/Support%20Documents/TechnicalDocs/SL23EP04.pdf
footprint SLAB-SOIC-8_N (SOIC, 8-Leads, Body 5x4mm, Pitch 1.27mm, IPC Medium Density)
footprint SLAB-SOIC-8_L (SOIC, 8-Leads, Body 5x4mm, Pitch 1.27mm, IPC High Density)
footprint SLAB-SOIC-8_M (SOIC, 8-Leads, Body 5x4mm, Pitch 1.27mm, IPC Low Density)
pins: 1 CLKIN (in) "Reference Frequency Clock Input. Weak pull-down (250kohm).", 2 CLKA1 (hiz) "Buffered Clock Output Weak pull-down (250kohm).", 3 CLKA2 (hiz) "Buffered Clock Output. Weak pull-down (250kohm).", 4 GND (power) "Power Ground.", 5 CLKB1 (hiz) "Buffered Clock Output. Weak pull-down (250kohm).", 6 CLKB2 (hiz) "Buffered Clock Output. Weak pull-down (250kohm).", 7 VDD (power) "2.5V to 3.3V Power Supply.", 8 FBK (in) "PLL Feedback Input. This pin must be connected to one of the clock outputs."

## SL23EP04SC-2
designator U?
Low Jitter and Skew Zero Delay Buffer (ZDB), 10 to 220 MHz, 0 to 70 degC, 8-pin SOIC, Tube; Manufacturer: Silicon Labs; PartNumber: SL23EP04SC-2; Output Format: LVCMOS; Sub-Family: Clock Buffers; DatasheetVersion: Rev. 2.1; PackageReference: SOIC-8; PackageDescription: 8-Pin Small-Outline Integrated Circuit, Body 4.9 x 3.9 mm, Pitch 1.27 mm; Supplier 1: Digi-Key; Supplier Part Number 1: SL23EP04SC-2-ND; Supplier 2: Mouser; Supplier Part Number 2: 634-SL23EP04SC-2; Frequency (MHz): 10 to 220; Packing: Tube; Mounting Technology: Surface Mount; ComponentLink1Description: Manufacturer URL; ComponentLink1URL: http://www.silabs.com/; ComponentLink2Description: Datasheet; ComponentLink2URL: http://www.silabs.com/Support%20Documents/TechnicalDocs/SL23EP04.pdf; ComponentLink3Description: Package Specification; ComponentLink3URL: http://www.silabs.com/Support%20Documents/TechnicalDocs/SL23EP04.pdf
footprint SLAB-SOIC-8_N (SOIC, 8-Leads, Body 5x4mm, Pitch 1.27mm, IPC Medium Density)
footprint SLAB-SOIC-8_L (SOIC, 8-Leads, Body 5x4mm, Pitch 1.27mm, IPC High Density)
footprint SLAB-SOIC-8_M (SOIC, 8-Leads, Body 5x4mm, Pitch 1.27mm, IPC Low Density)
pins: 1 CLKIN (in) "Reference Frequency Clock Input. Weak pull-down (250kohm).", 2 CLKA1 (hiz) "Buffered Clock Output Weak pull-down (250kohm).", 3 CLKA2 (hiz) "Buffered Clock Output. Weak pull-down (250kohm).", 4 GND (power) "Power Ground.", 5 CLKB1 (hiz) "Buffered Clock Output. Weak pull-down (250kohm).", 6 CLKB2 (hiz) "Buffered Clock Output. Weak pull-down (250kohm).", 7 VDD (power) "2.5V to 3.3V Power Supply.", 8 FBK (in) "PLL Feedback Input. This pin must be connected to one of the clock outputs."

## SL23EP04SC-2H
designator U?
Low Jitter and Skew Zero Delay Buffer (ZDB), 10 to 220 MHz, 0 to 70 degC, 8-pin SOIC, Tube; Manufacturer: Silicon Labs; PartNumber: SL23EP04SC-2H; Output Format: LVCMOS; Sub-Family: Clock Buffers; DatasheetVersion: Rev. 2.1; PackageReference: SOIC-8; PackageDescription: 8-Pin Small-Outline Integrated Circuit, Body 4.9 x 3.9 mm, Pitch 1.27 mm; Supplier 1: Digi-Key; Supplier Part Number 1: SL23EP04SC-2H-ND; Supplier 2: Mouser; Supplier Part Number 2: 634-SL23EP04SC-2H; Frequency (MHz): 10 to 220; Packing: Tube; Mounting Technology: Surface Mount; ComponentLink1Description: Manufacturer URL; ComponentLink1URL: http://www.silabs.com/; ComponentLink2Description: Datasheet; ComponentLink2URL: http://www.silabs.com/Support%20Documents/TechnicalDocs/SL23EP04.pdf; ComponentLink3Description: Package Specification; ComponentLink3URL: http://www.silabs.com/Support%20Documents/TechnicalDocs/SL23EP04.pdf
footprint SLAB-SOIC-8_N (SOIC, 8-Leads, Body 5x4mm, Pitch 1.27mm, IPC Medium Density)
footprint SLAB-SOIC-8_L (SOIC, 8-Leads, Body 5x4mm, Pitch 1.27mm, IPC High Density)
footprint SLAB-SOIC-8_M (SOIC, 8-Leads, Body 5x4mm, Pitch 1.27mm, IPC Low Density)
pins: 1 CLKIN (in) "Reference Frequency Clock Input. Weak pull-down (250kohm).", 2 CLKA1 (hiz) "Buffered Clock Output Weak pull-down (250kohm).", 3 CLKA2 (hiz) "Buffered Clock Output. Weak pull-down (250kohm).", 4 GND (power) "Power Ground.", 5 CLKB1 (hiz) "Buffered Clock Output. Weak pull-down (250kohm).", 6 CLKB2 (hiz) "Buffered Clock Output. Weak pull-down (250kohm).", 7 VDD (power) "2.5V to 3.3V Power Supply.", 8 FBK (in) "PLL Feedback Input. This pin must be connected to one of the clock outputs."

## SL23EP04SC-2HT
designator U?
Low Jitter and Skew Zero Delay Buffer (ZDB), 10 to 220 MHz, 0 to 70 degC, 8-pin SOIC, Tape and Reel; Manufacturer: Silicon Labs; PartNumber: SL23EP04SC-2HT; Output Format: LVCMOS; Sub-Family: Clock Buffers; DatasheetVersion: Rev. 2.1; PackageReference: SOIC-8; PackageDescription: 8-Pin Small-Outline Integrated Circuit, Body 4.9 x 3.9 mm, Pitch 1.27 mm; Supplier 1: Digi-Key; Supplier Part Number 1: SL23EP04SC-2HT-ND; Supplier 2: Mouser; Supplier Part Number 2: 634-SL23EP04SC-2HT; Frequency (MHz): 10 to 220; Packing: Tape and Reel; Mounting Technology: Surface Mount; ComponentLink1Description: Manufacturer URL; ComponentLink1URL: http://www.silabs.com/; ComponentLink2Description: Datasheet; ComponentLink2URL: http://www.silabs.com/Support%20Documents/TechnicalDocs/SL23EP04.pdf; ComponentLink3Description: Package Specification; ComponentLink3URL: http://www.silabs.com/Support%20Documents/TechnicalDocs/SL23EP04.pdf
footprint SLAB-SOIC-8_N (SOIC, 8-Leads, Body 5x4mm, Pitch 1.27mm, IPC Medium Density)
footprint SLAB-SOIC-8_L (SOIC, 8-Leads, Body 5x4mm, Pitch 1.27mm, IPC High Density)
footprint SLAB-SOIC-8_M (SOIC, 8-Leads, Body 5x4mm, Pitch 1.27mm, IPC Low Density)
pins: 1 CLKIN (in) "Reference Frequency Clock Input. Weak pull-down (250kohm).", 2 CLKA1 (hiz) "Buffered Clock Output Weak pull-down (250kohm).", 3 CLKA2 (hiz) "Buffered Clock Output. Weak pull-down (250kohm).", 4 GND (power) "Power Ground.", 5 CLKB1 (hiz) "Buffered Clock Output. Weak pull-down (250kohm).", 6 CLKB2 (hiz) "Buffered Clock Output. Weak pull-down (250kohm).", 7 VDD (power) "2.5V to 3.3V Power Supply.", 8 FBK (in) "PLL Feedback Input. This pin must be connected to one of the clock outputs."

## SL23EP04SC-2T
designator U?
Low Jitter and Skew Zero Delay Buffer (ZDB), 10 to 220 MHz, 0 to 70 degC, 8-pin SOIC, Tape and Reel; Manufacturer: Silicon Labs; PartNumber: SL23EP04SC-2T; Output Format: LVCMOS; Sub-Family: Clock Buffers; DatasheetVersion: Rev. 2.1; PackageReference: SOIC-8; PackageDescription: 8-Pin Small-Outline Integrated Circuit, Body 4.9 x 3.9 mm, Pitch 1.27 mm; Supplier 1: Digi-Key; Supplier Part Number 1: SL23EP04SC-2T-ND; Supplier 2: Mouser; Supplier Part Number 2: 634-SL23EP04SC-2T; Frequency (MHz): 10 to 220; Packing: Tape and Reel; Mounting Technology: Surface Mount; ComponentLink1Description: Manufacturer URL; ComponentLink1URL: http://www.silabs.com/; ComponentLink2Description: Datasheet; ComponentLink2URL: http://www.silabs.com/Support%20Documents/TechnicalDocs/SL23EP04.pdf; ComponentLink3Description: Package Specification; ComponentLink3URL: http://www.silabs.com/Support%20Documents/TechnicalDocs/SL23EP04.pdf
footprint SLAB-SOIC-8_N (SOIC, 8-Leads, Body 5x4mm, Pitch 1.27mm, IPC Medium Density)
footprint SLAB-SOIC-8_L (SOIC, 8-Leads, Body 5x4mm, Pitch 1.27mm, IPC High Density)
footprint SLAB-SOIC-8_M (SOIC, 8-Leads, Body 5x4mm, Pitch 1.27mm, IPC Low Density)
pins: 1 CLKIN (in) "Reference Frequency Clock Input. Weak pull-down (250kohm).", 2 CLKA1 (hiz) "Buffered Clock Output Weak pull-down (250kohm).", 3 CLKA2 (hiz) "Buffered Clock Output. Weak pull-down (250kohm).", 4 GND (power) "Power Ground.", 5 CLKB1 (hiz) "Buffered Clock Output. Weak pull-down (250kohm).", 6 CLKB2 (hiz) "Buffered Clock Output. Weak pull-down (250kohm).", 7 VDD (power) "2.5V to 3.3V Power Supply.", 8 FBK (in) "PLL Feedback Input. This pin must be connected to one of the clock outputs."

## SL23EP04SI-1
designator U?
Low Jitter and Skew Zero Delay Buffer (ZDB), 10 to 220 MHz, -40 to 85 degC, 8-pin SOIC, Tube; Manufacturer: Silicon Labs; PartNumber: SL23EP04SI-1; Output Format: LVCMOS; Sub-Family: Clock Buffers; DatasheetVersion: Rev. 2.1; PackageReference: SOIC-8; PackageDescription: 8-Pin Small-Outline Integrated Circuit, Body 4.9 x 3.9 mm, Pitch 1.27 mm; Supplier 1: Digi-Key; Supplier Part Number 1: SL23EP04SI-1-ND; Supplier 2: Mouser; Supplier Part Number 2: 634-SL23EP04SI-1; Frequency (MHz): 10 to 220; Packing: Tube; Mounting Technology: Surface Mount; ComponentLink1Description: Manufacturer URL; ComponentLink1URL: http://www.silabs.com/; ComponentLink2Description: Datasheet; ComponentLink2URL: http://www.silabs.com/Support%20Documents/TechnicalDocs/SL23EP04.pdf; ComponentLink3Description: Package Specification; ComponentLink3URL: http://www.silabs.com/Support%20Documents/TechnicalDocs/SL23EP04.pdf
footprint SLAB-SOIC-8_N (SOIC, 8-Leads, Body 5x4mm, Pitch 1.27mm, IPC Medium Density)
footprint SLAB-SOIC-8_L (SOIC, 8-Leads, Body 5x4mm, Pitch 1.27mm, IPC High Density)
footprint SLAB-SOIC-8_M (SOIC, 8-Leads, Body 5x4mm, Pitch 1.27mm, IPC Low Density)
pins: 1 CLKIN (in) "Reference Frequency Clock Input. Weak pull-down (250kohm).", 2 CLKA1 (hiz) "Buffered Clock Output Weak pull-down (250kohm).", 3 CLKA2 (hiz) "Buffered Clock Output. Weak pull-down (250kohm).", 4 GND (power) "Power Ground.", 5 CLKB1 (hiz) "Buffered Clock Output. Weak pull-down (250kohm).", 6 CLKB2 (hiz) "Buffered Clock Output. Weak pull-down (250kohm).", 7 VDD (power) "2.5V to 3.3V Power Supply.", 8 FBK (in) "PLL Feedback Input. This pin must be connected to one of the clock outputs."

## SL23EP04SI-1H
designator U?
Low Jitter and Skew Zero Delay Buffer (ZDB), 10 to 220 MHz, -40 to 85 degC, 8-pin SOIC, Tube; Manufacturer: Silicon Labs; PartNumber: SL23EP04SI-1H; Output Format: LVCMOS; Sub-Family: Clock Buffers; DatasheetVersion: Rev. 2.1; PackageReference: SOIC-8; PackageDescription: 8-Pin Small-Outline Integrated Circuit, Body 4.9 x 3.9 mm, Pitch 1.27 mm; Supplier 1: Digi-Key; Supplier Part Number 1: SL23EP04SI-1H-ND; Supplier 2: Mouser; Supplier Part Number 2: 634-SL23EP04SI-1H; Frequency (MHz): 10 to 220; Packing: Tube; Mounting Technology: Surface Mount; ComponentLink1Description: Manufacturer URL; ComponentLink1URL: http://www.silabs.com/; ComponentLink2Description: Datasheet; ComponentLink2URL: http://www.silabs.com/Support%20Documents/TechnicalDocs/SL23EP04.pdf; ComponentLink3Description: Package Specification; ComponentLink3URL: http://www.silabs.com/Support%20Documents/TechnicalDocs/SL23EP04.pdf
footprint SLAB-SOIC-8_N (SOIC, 8-Leads, Body 5x4mm, Pitch 1.27mm, IPC Medium Density)
footprint SLAB-SOIC-8_L (SOIC, 8-Leads, Body 5x4mm, Pitch 1.27mm, IPC High Density)
footprint SLAB-SOIC-8_M (SOIC, 8-Leads, Body 5x4mm, Pitch 1.27mm, IPC Low Density)
pins: 1 CLKIN (in) "Reference Frequency Clock Input. Weak pull-down (250kohm).", 2 CLKA1 (hiz) "Buffered Clock Output Weak pull-down (250kohm).", 3 CLKA2 (hiz) "Buffered Clock Output. Weak pull-down (250kohm).", 4 GND (power) "Power Ground.", 5 CLKB1 (hiz) "Buffered Clock Output. Weak pull-down (250kohm).", 6 CLKB2 (hiz) "Buffered Clock Output. Weak pull-down (250kohm).", 7 VDD (power) "2.5V to 3.3V Power Supply.", 8 FBK (in) "PLL Feedback Input. This pin must be connected to one of the clock outputs."

## SL23EP04SI-1HT
designator U?
Low Jitter and Skew Zero Delay Buffer (ZDB), 10 to 220 MHz, -40 to 85 degC, 8-pin SOIC, Tape and Reel; Manufacturer: Silicon Labs; PartNumber: SL23EP04SI-1HT; Output Format: LVCMOS; Sub-Family: Clock Buffers; DatasheetVersion: Rev. 2.1; PackageReference: SOIC-8; PackageDescription: 8-Pin Small-Outline Integrated Circuit, Body 4.9 x 3.9 mm, Pitch 1.27 mm; Supplier 1: Digi-Key; Supplier Part Number 1: SL23EP04SI-1HT-ND; Supplier 2: Mouser; Supplier Part Number 2: 634-SL23EP04SI-1HT; Frequency (MHz): 10 to 220; Packing: Tape and Reel; Mounting Technology: Surface Mount; ComponentLink1Description: Manufacturer URL; ComponentLink1URL: http://www.silabs.com/; ComponentLink2Description: Datasheet; ComponentLink2URL: http://www.silabs.com/Support%20Documents/TechnicalDocs/SL23EP04.pdf; ComponentLink3Description: Package Specification; ComponentLink3URL: http://www.silabs.com/Support%20Documents/TechnicalDocs/SL23EP04.pdf
footprint SLAB-SOIC-8_N (SOIC, 8-Leads, Body 5x4mm, Pitch 1.27mm, IPC Medium Density)
footprint SLAB-SOIC-8_L (SOIC, 8-Leads, Body 5x4mm, Pitch 1.27mm, IPC High Density)
footprint SLAB-SOIC-8_M (SOIC, 8-Leads, Body 5x4mm, Pitch 1.27mm, IPC Low Density)
pins: 1 CLKIN (in) "Reference Frequency Clock Input. Weak pull-down (250kohm).", 2 CLKA1 (hiz) "Buffered Clock Output Weak pull-down (250kohm).", 3 CLKA2 (hiz) "Buffered Clock Output. Weak pull-down (250kohm).", 4 GND (power) "Power Ground.", 5 CLKB1 (hiz) "Buffered Clock Output. Weak pull-down (250kohm).", 6 CLKB2 (hiz) "Buffered Clock Output. Weak pull-down (250kohm).", 7 VDD (power) "2.5V to 3.3V Power Supply.", 8 FBK (in) "PLL Feedback Input. This pin must be connected to one of the clock outputs."

## SL23EP04SI-1T
designator U?
Low Jitter and Skew Zero Delay Buffer (ZDB), 10 to 220 MHz, -40 to 85 degC, 8-pin SOIC, Tape and Reel; Manufacturer: Silicon Labs; PartNumber: SL23EP04SI-1T; Output Format: LVCMOS; Sub-Family: Clock Buffers; DatasheetVersion: Rev. 2.1; PackageReference: SOIC-8; PackageDescription: 8-Pin Small-Outline Integrated Circuit, Body 4.9 x 3.9 mm, Pitch 1.27 mm; Supplier 1: Digi-Key; Supplier Part Number 1: SL23EP04SI-1T-ND; Supplier 2: Mouser; Supplier Part Number 2: 634-SL23EP04SI-1T; Frequency (MHz): 10 to 220; Packing: Tape and Reel; Mounting Technology: Surface Mount; ComponentLink1Description: Manufacturer URL; ComponentLink1URL: http://www.silabs.com/; ComponentLink2Description: Datasheet; ComponentLink2URL: http://www.silabs.com/Support%20Documents/TechnicalDocs/SL23EP04.pdf; ComponentLink3Description: Package Specification; ComponentLink3URL: http://www.silabs.com/Support%20Documents/TechnicalDocs/SL23EP04.pdf
footprint SLAB-SOIC-8_N (SOIC, 8-Leads, Body 5x4mm, Pitch 1.27mm, IPC Medium Density)
footprint SLAB-SOIC-8_L (SOIC, 8-Leads, Body 5x4mm, Pitch 1.27mm, IPC High Density)
footprint SLAB-SOIC-8_M (SOIC, 8-Leads, Body 5x4mm, Pitch 1.27mm, IPC Low Density)
pins: 1 CLKIN (in) "Reference Frequency Clock Input. Weak pull-down (250kohm).", 2 CLKA1 (hiz) "Buffered Clock Output Weak pull-down (250kohm).", 3 CLKA2 (hiz) "Buffered Clock Output. Weak pull-down (250kohm).", 4 GND (power) "Power Ground.", 5 CLKB1 (hiz) "Buffered Clock Output. Weak pull-down (250kohm).", 6 CLKB2 (hiz) "Buffered Clock Output. Weak pull-down (250kohm).", 7 VDD (power) "2.5V to 3.3V Power Supply.", 8 FBK (in) "PLL Feedback Input. This pin must be connected to one of the clock outputs."

## SL23EP04SI-2
designator U?
Low Jitter and Skew Zero Delay Buffer (ZDB), 10 to 220 MHz, -40 to 85 degC, 8-pin SOIC, Tube; Manufacturer: Silicon Labs; PartNumber: SL23EP04SI-2; Output Format: LVCMOS; Sub-Family: Clock Buffers; DatasheetVersion: Rev. 2.1; PackageReference: SOIC-8; PackageDescription: 8-Pin Small-Outline Integrated Circuit, Body 4.9 x 3.9 mm, Pitch 1.27 mm; Supplier 1: Digi-Key; Supplier Part Number 1: SL23EP04SI-2-ND; Supplier 2: Mouser; Supplier Part Number 2: 634-SL23EP04SI-2; Frequency (MHz): 10 to 220; Packing: Tube; Mounting Technology: Surface Mount; ComponentLink1Description: Manufacturer URL; ComponentLink1URL: http://www.silabs.com/; ComponentLink2Description: Datasheet; ComponentLink2URL: http://www.silabs.com/Support%20Documents/TechnicalDocs/SL23EP04.pdf; ComponentLink3Description: Package Specification; ComponentLink3URL: http://www.silabs.com/Support%20Documents/TechnicalDocs/SL23EP04.pdf
footprint SLAB-SOIC-8_N (SOIC, 8-Leads, Body 5x4mm, Pitch 1.27mm, IPC Medium Density)
footprint SLAB-SOIC-8_L (SOIC, 8-Leads, Body 5x4mm, Pitch 1.27mm, IPC High Density)
footprint SLAB-SOIC-8_M (SOIC, 8-Leads, Body 5x4mm, Pitch 1.27mm, IPC Low Density)
pins: 1 CLKIN (in) "Reference Frequency Clock Input. Weak pull-down (250kohm).", 2 CLKA1 (hiz) "Buffered Clock Output Weak pull-down (250kohm).", 3 CLKA2 (hiz) "Buffered Clock Output. Weak pull-down (250kohm).", 4 GND (power) "Power Ground.", 5 CLKB1 (hiz) "Buffered Clock Output. Weak pull-down (250kohm).", 6 CLKB2 (hiz) "Buffered Clock Output. Weak pull-down (250kohm).", 7 VDD (power) "2.5V to 3.3V Power Supply.", 8 FBK (in) "PLL Feedback Input. This pin must be connected to one of the clock outputs."

## SL23EP04SI-2H
designator U?
Low Jitter and Skew Zero Delay Buffer (ZDB), 10 to 220 MHz, -40 to 85 degC, 8-pin SOIC, Tube; Manufacturer: Silicon Labs; PartNumber: SL23EP04SI-2H; Output Format: LVCMOS; Sub-Family: Clock Buffers; DatasheetVersion: Rev. 2.1; PackageReference: SOIC-8; PackageDescription: 8-Pin Small-Outline Integrated Circuit, Body 4.9 x 3.9 mm, Pitch 1.27 mm; Supplier 1: Digi-Key; Supplier Part Number 1: SL23EP04SI-2H-ND; Supplier 2: Mouser; Supplier Part Number 2: 634-SL23EP04SI-2H; Frequency (MHz): 10 to 220; Packing: Tube; Mounting Technology: Surface Mount; ComponentLink1Description: Manufacturer URL; ComponentLink1URL: http://www.silabs.com/; ComponentLink2Description: Datasheet; ComponentLink2URL: http://www.silabs.com/Support%20Documents/TechnicalDocs/SL23EP04.pdf; ComponentLink3Description: Package Specification; ComponentLink3URL: http://www.silabs.com/Support%20Documents/TechnicalDocs/SL23EP04.pdf
footprint SLAB-SOIC-8_N (SOIC, 8-Leads, Body 5x4mm, Pitch 1.27mm, IPC Medium Density)
footprint SLAB-SOIC-8_L (SOIC, 8-Leads, Body 5x4mm, Pitch 1.27mm, IPC High Density)
footprint SLAB-SOIC-8_M (SOIC, 8-Leads, Body 5x4mm, Pitch 1.27mm, IPC Low Density)
pins: 1 CLKIN (in) "Reference Frequency Clock Input. Weak pull-down (250kohm).", 2 CLKA1 (hiz) "Buffered Clock Output Weak pull-down (250kohm).", 3 CLKA2 (hiz) "Buffered Clock Output. Weak pull-down (250kohm).", 4 GND (power) "Power Ground.", 5 CLKB1 (hiz) "Buffered Clock Output. Weak pull-down (250kohm).", 6 CLKB2 (hiz) "Buffered Clock Output. Weak pull-down (250kohm).", 7 VDD (power) "2.5V to 3.3V Power Supply.", 8 FBK (in) "PLL Feedback Input. This pin must be connected to one of the clock outputs."